# EAGLE library part USB (library FirePick)
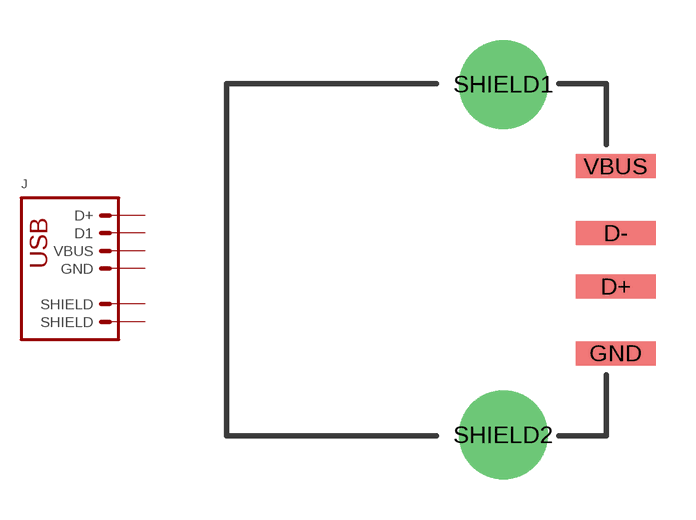
[diagram p3: symbol with the pads of CONN-USB-A-S; footprint CONN-USB-A-S]

Designator prefix J

## USB  [CONN-USB-A-S]
D+  D+  pas
D-  D1  pas
GND  GND  pas
SHIELD1  SHIELD  pas
SHIELD2  SHIELD  pas
VBUS  VBUS  pas

## Footprint CONN-USB-A-S (pad centres in mm)
smd 3 x 0.9: D+ 5.942,-1; D- 5.942,1; GND 5.942,-3.5; VBUS 5.942,3.5
drill 2.311: SHIELD1 1.73,6.566; SHIELD2 1.73,-6.566